# Altium schematic symbol library ffc_fpc.SchLib: 9 symbols
Pins are listed as number, name and electrical type; pins without a type are passive.

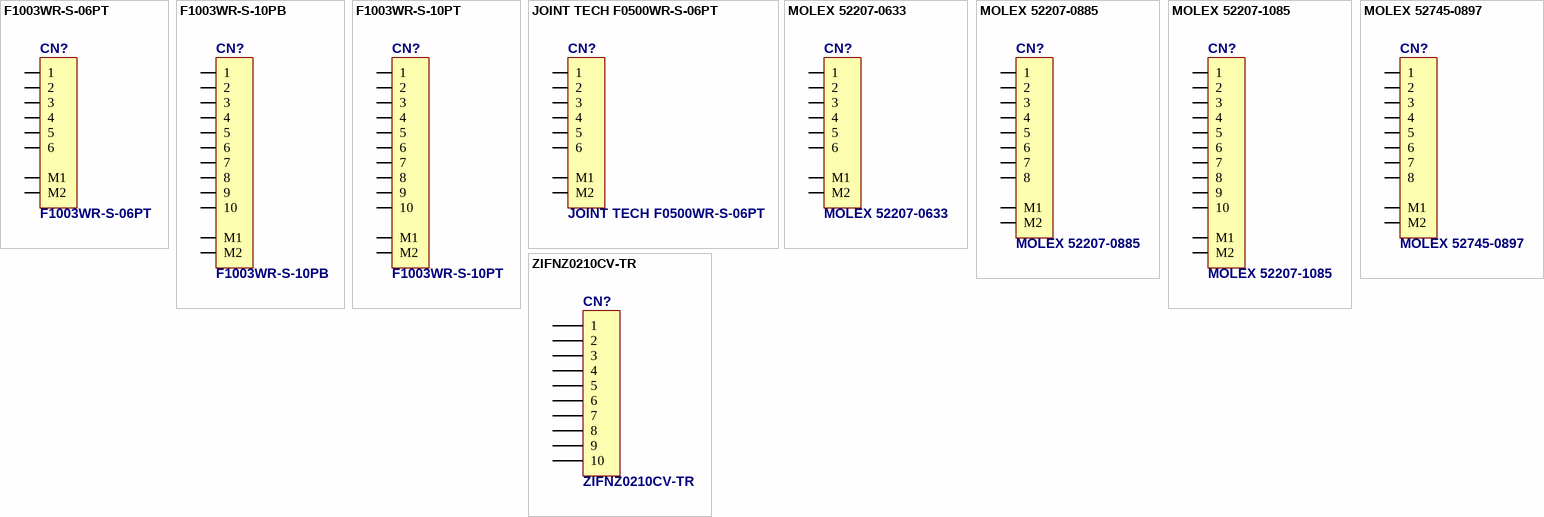
[diagram p0: symbols F1003WR-S-06PT to ZIFNZ0210CV-TR]

## F1003WR-S-06PT
designator CN?
Joint Tech Horizontal, 6 pin, Top Contacts, 1.00mm Pitch FFC/FPC Connector
footprint F1003WR-S-06PT (FFC raster 1mm (F0103WR-S-06PT))
pins: 1, 2, 3, 4, 5, 6, M1, M2

## F1003WR-S-10PB
designator CN?
Joint Tech Horizontal, 10 pin, Bottom Contacts, 1.00mm Pitch FFC/FPC Connector
footprint F1003WR-S-10P (Joint Tech F1003WR-S-10PT/10PB  (Horizontal, 10 pin, 1.00mm Pitch FFC/FPC Connector))
pins: 1, 2, 3, 4, 5, 6, 7, 8, 9, 10, 11 M1, 12 M2

## F1003WR-S-10PT
designator CN?
Joint Tech Horizontal, 10 pin, Top Contacts, 1.00mm Pitch FFC/FPC Connector
footprint F1003WR-S-10P (Joint Tech F1003WR-S-10PT/10PB  (Horizontal, 10 pin, 1.00mm Pitch FFC/FPC Connector))
pins: 1, 2, 3, 4, 5, 6, 7, 8, 9, 10, 11 M1, 12 M2

## JOINT TECH F0500WR-S-06PT
designator CN?
0.50mm Pitch FFC/FPC Connector, SMT, Right Angle, ZIF, Top Contact Style Receptacle, 6 Circuits
footprint F0500WR-S-06PT
pins: 1, 2, 3, 4, 5, 6, M1, M2

## MOLEX 52207-0633
designator CN?
1.00mm Pitch FFC/FPC Connector, SMT, Right Angle, ZIF, Top Contact Style Receptacle, 6 Circuits
footprint 52207-0633 (MOLEX) (FFC raster 1mm (0522070633))
pins: 1, 2, 3, 4, 5, 6, M1, M2

## MOLEX 52207-0885
designator CN?
1.00mm Pitch FFC/FPC Connector, SMT, Right Angle, ZIF, Top Contact Style Receptacle, 8 Circuits
footprint 52207-0885 (MOLEX) (Molex 52207-0885 (Connector; FH12 Series; 8 Position; 1.0mm Spaced Bottom Eccentric Contact))
pins: 1, 2, 3, 4, 5, 6, 7, 8, 9 M1, 10 M2

## MOLEX 52207-1085
designator CN?
1.00mm Pitch FFC/FPC Connector, SMT, Right Angle, ZIF, Top Contact Style Receptacle, 10 Circuits
footprint 52207-1085 (MOLEX) (Molex 52207-1085 (1.00mm Pitch FFC/FPC Connector, SMT, Right Angle, ZIF, Top Contact Style Receptacle, 10 Circuits))
pins: 1, 2, 3, 4, 5, 6, 7, 8, 9, 10, 11 M1, 12 M2

## MOLEX 52745-0897
designator CN?
0.50mm Pitch FFC/FPC Connector, SMT, Right Angle, ZIF, Top Contact Style Receptacle, 6 Circuits
footprint 52745-0897 (MOLEX)
pins: 1, 2, 3, 4, 5, 6, 7, 8, M1, M2

## ZIFNZ0210CV-TR
designator CN?
ZIF FFC connector, 0.5mm pitch, side entry, 10 upside contacts; ComponentLink1Description: GLYNN; ComponentLink1URL: https://www.glyn.com/Products/Displays/Active-Displays-TFT?q=ETM057020EDKU; ComponentLink2Description: MaritexTOUCH; ComponentLink2URL: https://www.maritex.com.pl/zlacza/zlacza_do_tasm_ffc_i_fpc/zlacza_zif/zlacza_zif_smt_z_wejsciem_poziomym_w_rastrze_0_50mm/zifnz0210cv-tr.html
footprint ZIFNZ0210CV-TR
pins: 1, 2, 3, 4, 5, 6, 7, 8, 9, 10